# Altium schematic symbol library SCH - MCU - NUVOTON - NUVOTON NANO100SC2BN.SchLib: 1 symbol
Pins are listed as number, name and electrical type; pins without a type are passive.

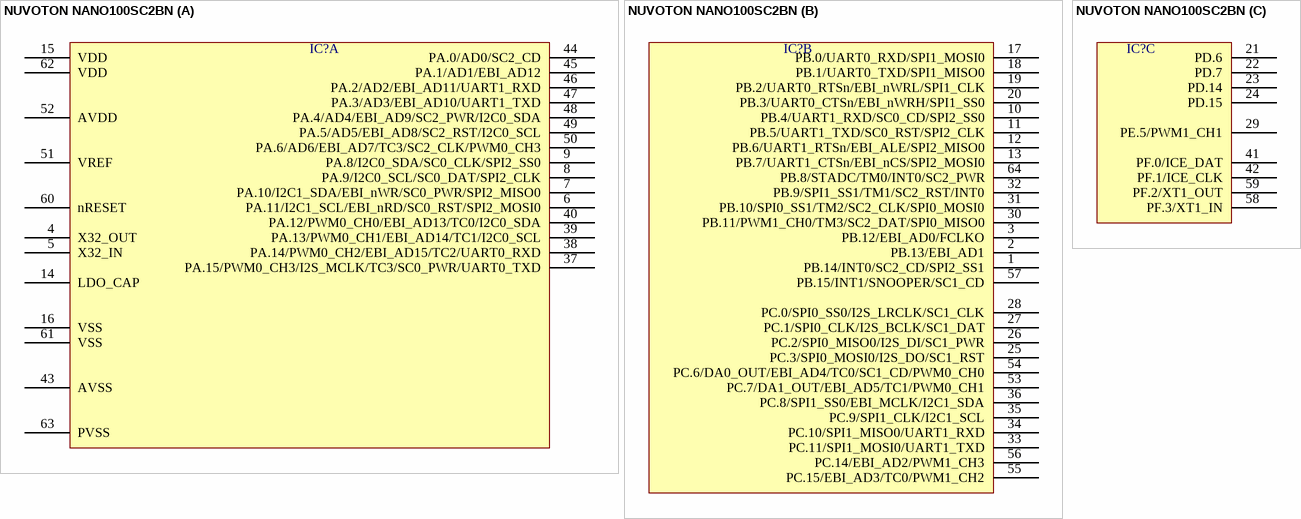
[diagram p0: symbol NUVOTON NANO100SC2BN]

## NUVOTON NANO100SC2BN
designator IC?  (value not drawn)
part A pins: 4 X32_OUT, 5 X32_IN, 6 PA.11/I2C1_SCL/EBI_nRD/SC0_RST/SPI2_MOSI0, 7 PA.10/I2C1_SDA/EBI_nWR/SC0_PWR/SPI2_MISO0, 8 PA.9/I2C0_SCL/SC0_DAT/SPI2_CLK, 9 PA.8/I2C0_SDA/SC0_CLK/SPI2_SS0, 14 LDO_CAP, 15 VDD, 16 VSS, 37 PA.15/PWM0_CH3/I2S_MCLK/TC3/SC0_PWR/UART0_TXD, 38 PA.14/PWM0_CH2/EBI_AD15/TC2/UART0_RXD, 39 PA.13/PWM0_CH1/EBI_AD14/TC1/I2C0_SCL, 40 PA.12/PWM0_CH0/EBI_AD13/TC0/I2C0_SDA, 43 AVSS, 44 PA.0/AD0/SC2_CD, 45 PA.1/AD1/EBI_AD12, 46 PA.2/AD2/EBI_AD11/UART1_RXD, 47 PA.3/AD3/EBI_AD10/UART1_TXD, 48 PA.4/AD4/EBI_AD9/SC2_PWR/I2C0_SDA, 49 PA.5/AD5/EBI_AD8/SC2_RST/I2C0_SCL, 50 PA.6/AD6/EBI_AD7/TC3/SC2_CLK/PWM0_CH3, 51 VREF, 52 AVDD, 60 nRESET, 61 VSS, 62 VDD, 63 PVSS
part B pins: 1 PB.14/INT0/SC2_CD/SPI2_SS1, 2 PB.13/EBI_AD1, 3 PB.12/EBI_AD0/FCLKO, 10 PB.4/UART1_RXD/SC0_CD/SPI2_SS0, 11 PB.5/UART1_TXD/SC0_RST/SPI2_CLK, 12 PB.6/UART1_RTSn/EBI_ALE/SPI2_MISO0, 13 PB.7/UART1_CTSn/EBI_nCS/SPI2_MOSI0, 17 PB.0/UART0_RXD/SPI1_MOSI0, 18 PB.1/UART0_TXD/SPI1_MISO0, 19 PB.2/UART0_RTSn/EBI_nWRL/SPI1_CLK, 20 PB.3/UART0_CTSn/EBI_nWRH/SPI1_SS0, 25 PC.3/SPI0_MOSI0/I2S_DO/SC1_RST, 26 PC.2/SPI0_MISO0/I2S_DI/SC1_PWR, 27 PC.1/SPI0_CLK/I2S_BCLK/SC1_DAT, 28 PC.0/SPI0_SS0/I2S_LRCLK/SC1_CLK, 30 PB.11/PWM1_CH0/TM3/SC2_DAT/SPI0_MISO0, 31 PB.10/SPI0_SS1/TM2/SC2_CLK/SPI0_MOSI0, 32 PB.9/SPI1_SS1/TM1/SC2_RST/INT0, 33 PC.11/SPI1_MOSI0/UART1_TXD, 34 PC.10/SPI1_MISO0/UART1_RXD, 35 PC.9/SPI1_CLK/I2C1_SCL, 36 PC.8/SPI1_SS0/EBI_MCLK/I2C1_SDA, 53 PC.7/DA1_OUT/EBI_AD5/TC1/PWM0_CH1, 54 PC.6/DA0_OUT/EBI_AD4/TC0/SC1_CD/PWM0_CH0, 55 PC.15/EBI_AD3/TC0/PWM1_CH2, 56 PC.14/EBI_AD2/PWM1_CH3, 57 PB.15/INT1/SNOOPER/SC1_CD, 64 PB.8/STADC/TM0/INT0/SC2_PWR
part C pins: 21 PD.6, 22 PD.7, 23 PD.14, 24 PD.15, 29 PE.5/PWM1_CH1, 41 PF.0/ICE_DAT, 42 PF.1/ICE_CLK, 58 PF.3/XT1_IN, 59 PF.2/XT1_OUT